# Altium footprint library AS0B821-S78B-7H.PcbLib: 1 footprints
Each footprint in its own frame and in the unit in brackets; x right, y up, seen from the top. Pads: shape width x height; smd on the part's side, far side on the other; paste and mask are expansions set on the pad; w line width, h text height; cw(c..) or ccw(c..) is an arc to the next point about the centre after c.
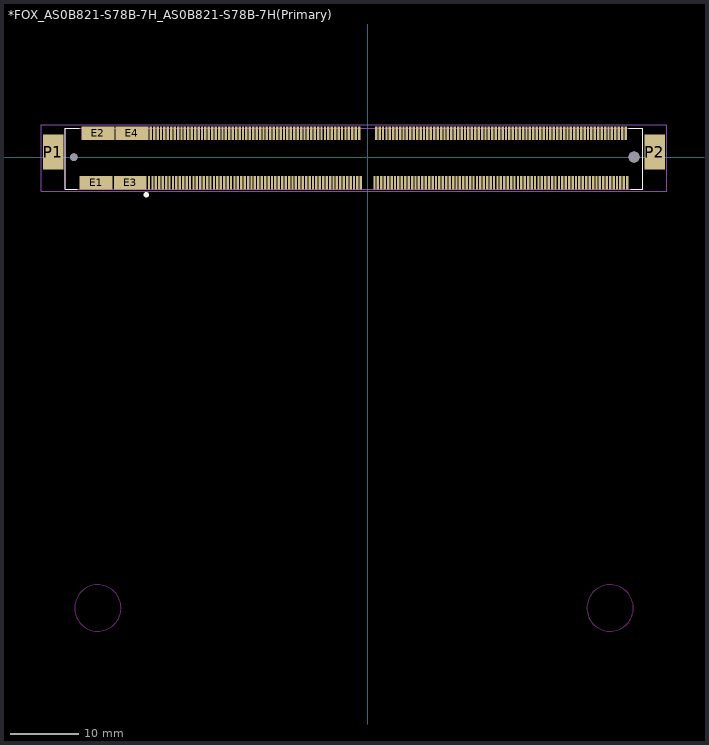
[diagram p0: the footprint, top view; thin cyan lines are the x and y axes]

## *FOX_AS0B821-S78B-7H_AS0B821-S78B-7H(Primary) [mm]
pads (282):
  rect 0.35x2 smd: 1(-32,-3.75) 2(-31.75,3.5) 3(-31.5,-3.75) 4(-31.25,3.5) 5(-31,-3.75) 6(-30.75,3.5) 7(-30.5,-3.75) 8(-30.25,3.5) 9(-30,-3.75) 10(-29.75,3.5) 11(-29.5,-3.75) 12(-29.25,3.5) 13(-29,-3.75) 14(-28.75,3.5) 15(-28.5,-3.75) 16(-28.25,3.5) 17(-28,-3.75) 18(-27.75,3.5) 19(-27.5,-3.75) 20(-27.25,3.5) 21(-27,-3.75) 22(-26.75,3.5) 23(-26.5,-3.75) 24(-26.25,3.5) 25(-26,-3.75) 26(-25.75,3.5) 27(-25.5,-3.75) 28(-25.25,3.5) 29(-25,-3.75) 30(-24.75,3.5) 31(-24.5,-3.75) 32(-24.25,3.5) 33(-24,-3.75) 34(-23.75,3.5) 35(-23.5,-3.75) 36(-23.25,3.5) 37(-23,-3.75) 38(-22.75,3.5) 39(-22.5,-3.75) 40(-22.25,3.5) 41(-22,-3.75) 42(-21.75,3.5) 43(-21.5,-3.75) 44(-21.25,3.5) 45(-21,-3.75) 46(-20.75,3.5) 47(-20.5,-3.75) 48(-20.25,3.5) 49(-20,-3.75) 50(-19.75,3.5) 51(-19.5,-3.75) 52(-19.25,3.5) 53(-19,-3.75) 54(-18.75,3.5) 55(-18.5,-3.75) 56(-18.25,3.5) 57(-18,-3.75) 58(-17.75,3.5) 59(-17.5,-3.75) 60(-17.25,3.5) 61(-17,-3.75) 62(-16.75,3.5) 63(-16.5,-3.75) 64(-16.25,3.5) 65(-16,-3.75) 66(-15.75,3.5) 67(-15.5,-3.75) 68(-15.25,3.5) 69(-15,-3.75) 70(-14.75,3.5) 71(-14.5,-3.75) 72(-14.25,3.5) 73(-14,-3.75) 74(-13.75,3.5) 75(-13.5,-3.75) 76(-13.25,3.5) 77(-13,-3.75) 78(-12.75,3.5) 79(-12.5,-3.75) 80(-12.25,3.5) 81(-12,-3.75) 82(-11.75,3.5) 83(-11.5,-3.75) 84(-11.25,3.5) 85(-11,-3.75) 86(-10.75,3.5) 87(-10.5,-3.75) 88(-10.25,3.5) 89(-10,-3.75) 90(-9.75,3.5) 91(-9.5,-3.75) 92(-9.25,3.5) 93(-9,-3.75) 94(-8.75,3.5) 95(-8.5,-3.75) 96(-8.25,3.5) 97(-8,-3.75) 98(-7.75,3.5) 99(-7.5,-3.75) 100(-7.25,3.5) 101(-7,-3.75) 102(-6.75,3.5) 103(-6.5,-3.75) 104(-6.25,3.5) 105(-6,-3.75) 106(-5.75,3.5) 107(-5.5,-3.75) 108(-5.25,3.5) 109(-5,-3.75) 110(-4.75,3.5) 111(-4.5,-3.75) 112(-4.25,3.5) 113(-4,-3.75) 114(-3.75,3.5) 115(-3.5,-3.75) 116(-3.25,3.5) 117(-3,-3.75) 118(-2.75,3.5) 119(-2.5,-3.75) 120(-2.25,3.5) 121(-2,-3.75) 122(-1.75,3.5) 123(-1.5,-3.75) 124(-1.25,3.5) 125(-1,-3.75) 133(1,-3.75) 134(1.25,3.5) 135(1.5,-3.75) 136(1.75,3.5) 137(2,-3.75) 138(2.25,3.5) 139(2.5,-3.75) 140(2.75,3.5) 141(3,-3.75) 142(3.25,3.5) 143(3.5,-3.75) 144(3.75,3.5) 145(4,-3.75) 146(4.25,3.5) 147(4.5,-3.75) 148(4.75,3.5) 149(5,-3.75) 150(5.25,3.5) 151(5.5,-3.75) 152(5.75,3.5) 153(6,-3.75) 154(6.25,3.5) 155(6.5,-3.75) 156(6.75,3.5) 157(7,-3.75) 158(7.25,3.5) 159(7.5,-3.75) 160(7.75,3.5) 161(8,-3.75) 162(8.25,3.5) 163(8.5,-3.75) 164(8.75,3.5) 165(9,-3.75) 166(9.25,3.5) 167(9.5,-3.75) 168(9.75,3.5) 169(10,-3.75) 170(10.25,3.5) 171(10.5,-3.75) 172(10.75,3.5) 173(11,-3.75) 174(11.25,3.5) 175(11.5,-3.75) 176(11.75,3.5) 177(12,-3.75) 178(12.25,3.5) 179(12.5,-3.75) 180(12.75,3.5) 181(13,-3.75) 182(13.25,3.5) 183(13.5,-3.75) 184(13.75,3.5) 185(14,-3.75) 186(14.25,3.5) 187(14.5,-3.75) 188(14.75,3.5) 189(15,-3.75) 190(15.25,3.5) 191(15.5,-3.75) 192(15.75,3.5) 193(16,-3.75) 194(16.25,3.5) 195(16.5,-3.75) 196(16.75,3.5) 197(17,-3.75) 198(17.25,3.5) 199(17.5,-3.75) 200(17.75,3.5) 201(18,-3.75) 202(18.25,3.5) 203(18.5,-3.75) 204(18.75,3.5) 205(19,-3.75) 206(19.25,3.5) 207(19.5,-3.75) 208(19.75,3.5) 209(20,-3.75) 210(20.25,3.5) 211(20.5,-3.75) 212(20.75,3.5) 213(21,-3.75) 214(21.25,3.5) 215(21.5,-3.75) 216(21.75,3.5) 217(22,-3.75) 218(22.25,3.5) 219(22.5,-3.75) 220(22.75,3.5) 221(23,-3.75) 222(23.25,3.5) 223(23.5,-3.75) 224(23.75,3.5) 225(24,-3.75) 226(24.25,3.5) 227(24.5,-3.75) 228(24.75,3.5) 229(25,-3.75) 230(25.25,3.5) 231(25.5,-3.75) 232(25.75,3.5) 233(26,-3.75) 234(26.25,3.5) 235(26.5,-3.75) 236(26.75,3.5) 237(27,-3.75) 238(27.25,3.5) 239(27.5,-3.75) 240(27.75,3.5) 241(28,-3.75) 242(28.25,3.5) 243(28.5,-3.75) 244(28.75,3.5) 245(29,-3.75) 246(29.25,3.5) 247(29.5,-3.75) 248(29.75,3.5) 249(30,-3.75) 250(30.25,3.5) 251(30.5,-3.75) 252(30.75,3.5) 253(31,-3.75) 254(31.25,3.5) 255(31.5,-3.75) 256(31.75,3.5) 257(32,-3.75) 258(32.25,3.5) 259(32.5,-3.75) 260(32.75,3.5) 261(33,-3.75) 262(33.25,3.5) 263(33.5,-3.75) 264(33.75,3.5) 265(34,-3.75) 266(34.25,3.5) 267(34.5,-3.75) 268(34.75,3.5) 269(35,-3.75) 270(35.25,3.5) 271(35.5,-3.75) 272(35.75,3.5) 273(36,-3.75) 274(36.25,3.5) 275(36.5,-3.75) 276(36.75,3.5) 277(37,-3.75) 278(37.25,3.5) 279(37.5,-3.75) 280(37.75,3.5) 281(38,-3.75)
  rect 4.82x2 smd: E1(-39.75,-3.75) E2(-39.5,3.5) E3(-34.75,-3.75) E4(-34.5,3.5)
  round 1.1 hole 1.1 unplated: None(-43,0)
  round 1.6 hole 1.6 unplated: None(39,0)
  rect 3x5.15 smd: P1(-46,0.75) P2(42,0.75)
Top Overlay:
  circle w0.4: c-32.4,-5.5 r0.2
  lines w0.127: -42.5,-4.7 -44.3,-4.7 -44.3,4.2 -42.2,4.2 ; 38.2,4.2 40.3,4.2 40.3,-4.7 38.5,-4.7
Keep-Out Layer:
  circle w0: c-39.5,-66 r3.4
  circle w0: c35.5,-66 r3.4
  circle w0: c-39.5,-66 r3.4
  circle w0: c35.5,-66 r3.4
  circle w0: c-39.5,-66 r3.4
  circle w0: c35.5,-66 r3.4
  circle w0: c-39.5,-66 r3.4
  circle w0: c35.5,-66 r3.4
  circle w0: c-39.5,-66 r3.4
  circle w0: c35.5,-66 r3.4
  circle w0: c-39.5,-66 r3.4
  circle w0: c35.5,-66 r3.4
  circle w0: c-39.5,-66 r3.4
  circle w0: c35.5,-66 r3.4
  circle w0: c-39.5,-66 r3.4
  circle w0: c35.5,-66 r3.4
  circle w0: c-39.5,-66 r3.4
  circle w0: c35.5,-66 r3.4
Mechanical 13:
  lines w0.127: -44.3,-4.7 -44.3,4.2 ; -44.3,-4.7 40.3,-4.7 ; -44.3,-4.7 -44.3,4.2 ; -44.3,-4.7 40.3,-4.7 ; -44.3,4.2 40.3,4.2 ; -44.3,4.2 40.3,4.2 ; 40.3,-4.7 40.3,4.2 ; 40.3,-4.7 40.3,4.2
Mechanical 15:
  lines w0.05: -47.75,-5 -47.75,4.75 43.75,4.75 43.75,-5 -47.75,-5